# Altium footprint library Laser Controller.PcbLib: 41 footprints (part 1 of 3)
Each footprint in its own frame and in the unit in brackets; x right, y up, seen from the top. Pads: shape width x height; smd on the part's side, far side on the other; paste and mask are expansions set on the pad; w line width, h text height; cw(c..) or ccw(c..) is an arc to the next point about the centre after c.
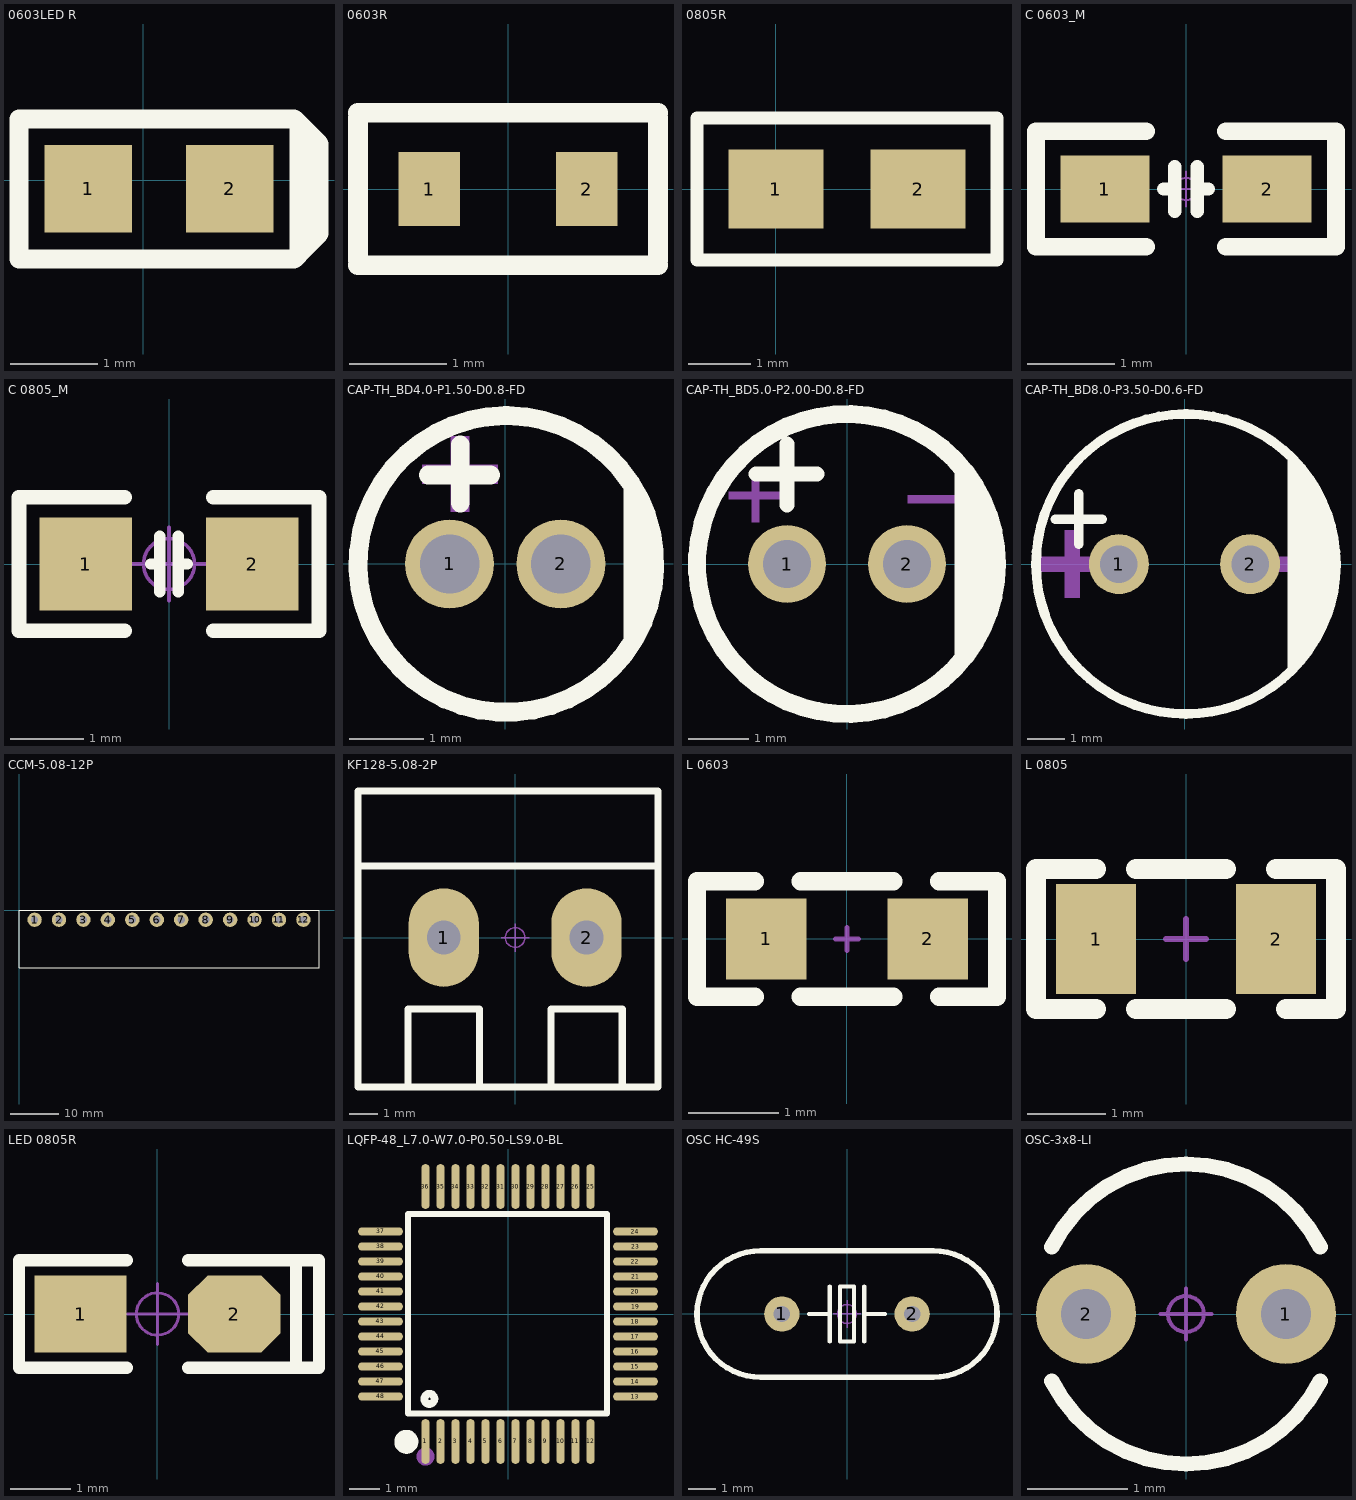
[diagram p0: the footprints below, top view; thin cyan lines are the x and y axes]

## 0603LED R [mm]
pads (2):
  rect 1x1 smd: 1(-0.632,-0.101) 2(0.988,-0.101)
Top Overlay:
  lines w0.22: 1.72,0.698 2.007,0.412 2.007,-0.61 1.72,-0.896 1.72,-0.902 ; 1.88,-0.66 1.88,0.457 ; 1.72,-0.902 1.778,-0.843 1.778,0.635 1.715,0.698 -1.422,0.698 -1.422,-0.902 1.72,-0.902
3D body "User Library-led_0603.STEP": height 0.6, standoff 0, extent -0.632,-0.501 0.988,0.299

## 0603R [mil]
pads (2):
  rect 25x30 smd: 1(-32,0) 2(32,0)
Top Overlay:
  lines w8: -61,-31 13,-31 61,-31 ; -61,-29 -61,29 ; -61,31 13,31 61,31 ; 61,-29 61,29
3D body "R0603.STEP": height 17.72, standoff 0, extent -32.49,-15.74 30.5,15.75

## 0805R [mil]
pads (2):
  rect 60x50 smd: 1(0,0) 2(90,0)
Top Overlay:
  lines w8: -50,-45 65,-45 140,-45 140,45 65,45 -50,45 -50,-45
3D body "R0805.STEP": height 21.65, standoff 0, extent 4.64,-24.8 83.37,24.81

## C 0603_M [mil] "无极性贴片电容"
pads (2):
  rect 40x30 smd: 1(-36.5,0) 2(36.5,0)
Top Overlay:
  lines w6: -10,0 -5,0 ; -5,-10 -5,10 ; 5,-10 5,10 ; 5,0 10,0
  lines w8: -18,-26 -67.5,-26 -67.5,26 -18,26 ; 18,-26 67.5,-26 67.5,26 18,26
Mechanical 15:
  circle w1: c0,0 r5
  lines w1: -7.87,0 7.87,0 ; 0,-7.87 0,7.87
3D body "C 0603.STEP": height 31.89, standoff -0.39, extent -31.5,-16.14 31.5,16.14

## C 0805_M [mil] "无极性贴片电容"
height 19.68
pads (2):
  rect 50x50 smd: 1(-45,0) 2(45,0)
Top Overlay:
  lines w6: -10,0 -5,0 ; -5,-15 -5,15 ; 5,-15 5,15 ; 5,0 10,0
  lines w8: -24,-36 -81,-36 -81,36 -24,36 ; 24,-36 81,-36 81,36 24,36
Mechanical 15:
  circle w1.97: c0,0 r13.78
  lines w1.97: -19.68,0 19.68,0 ; 0,-19.68 0,19.68
3D body "C 0805.STEP": height 20.08, standoff -0.39, extent -39.37,-24.02 39.37,24.02

## CAP-TH_BD4.0-P1.50-D0.8-FD [mm] "径向引线,4x7mm"
pads (2):
  round 1.2 hole 0.8: 1(-0.75,0) 2(0.75,0)
Top Overlay:
  region: 1.6,-1.2 1.71,-1.077 1.882,-0.796 1.999,-0.489 2.059,-0.165 2.059,0.165 1.999,0.489 1.882,0.796 1.71,1.077 1.6,1.2
  lines w0.254: -1.038,1.2 -0.2,1.2 ; -0.606,0.819 -0.606,1.606 ; -0.001,1.999 ccw(c0.015,-0.001) 0.032,1.999
Mechanical 15:
  region: -1.118,1.337 -0.737,1.337 -0.102,1.337 -0.102,1.083 -1.118,1.083
  region: -0.737,0.702 -0.737,1.083 -0.737,1.718 -0.483,1.718 -0.483,0.702
  region: 1.651,1.016 1.742,0.925 1.884,0.712 1.982,0.476 2.032,0.224 2.032,0.096 2.032,-0.127 2.032,-0.223 2.032,-0.351 1.982,-0.603 1.884,-0.839 1.742,-1.052 1.651,-1.143

## CAP-TH_BD5.0-P2.00-D0.8-FD [mm] "径向引线,5x11mm"
pads (2):
  round 1.3 hole 0.8: 1(-1,0) 2(1,0)
Top Overlay:
  circle w0.3: c0,0 r2.5
  region: 1.794,1.651 1.961,1.491 2.225,1.111 2.407,0.685 2.5,0.231 2.5,-0.231 2.407,-0.685 2.225,-1.111 1.961,-1.491 1.794,-1.651
  lines w0.254: -1.516,1.5 -0.5,1.5 ; -1,0.984 -1,2
Mechanical 15:
  region: 1.016,1.143 1.905,1.143 1.905,1.016 1.016,1.016
  region: -1.588,0.699 -1.588,1.587 -1.461,1.587 -1.46,0.699
  region: -1.969,1.206 -1.08,1.206 -1.08,1.079 -1.969,1.079

## CAP-TH_BD8.0-P3.50-D0.6-FD [mm] "径向引线,8x16mm"
pads (2):
  round 1.6 hole 1: 1(-1.75,0) 2(1.75,0)
Top Overlay:
  region: 2.75,-3 2.941,-2.8 3.268,-2.355 3.536,-1.872 3.741,-1.359 3.88,-0.824 3.95,-0.276 3.95,0.276 3.88,0.824 3.741,1.359 3.536,1.872 3.268,2.355 2.941,2.8 2.75,3
  lines w0.254: -3.445,1.2 -2.2,1.2 ; -2.822,0.527 -2.822,1.873 ; 0.003,4 ccw(c0.038,0.001) 0.074,4
Mechanical 15:
  region: 3.5,0.2 2.1,0.2 2.1,-0.2 3.7,-0.2 3.9,-0.2 3.9,0.2
  region: -2.5,0.2 -3.9,0.2 -3.9,-0.2 -2.3,-0.2 -2.1,-0.2 -2.1,0.2
  region: -3.2,0.5 -3.2,-0.9 -2.8,-0.9 -2.8,0.7 -2.8,0.9 -3.2,0.9

## CCM-5.08-12P [mm] "蒜米工坊"
pads (12):
  round 3 hole 1.5: 1(3.24,-2) 2(8.32,-2) 3(13.4,-2) 4(18.48,-2) 5(23.56,-2) 6(28.64,-2) 7(33.72,-2) 8(38.8,-2) 9(43.88,-2) 10(48.96,-2) 11(54.04,-2) 12(59.12,-2)
Top Overlay:
  lines w0.203: 5.08,-12 16.64,-12 ; 5.08,0 16.64,0 ; 10.16,-12 21.72,-12 ; 10.16,0 21.72,0 ; 11.56,-12 0,-12 0,0 11.56,0 ; 15.24,-12 26.8,-12 ; 15.24,0 26.8,0 ; 20.32,-12 62.36,-12 62.36,0 20.32,0

## KF128-5.08-2P [mm] "螺钉式接线端子，脚距5.08mm"
pads (2):
  oval 2.5x3.5 hole 1.2: 1(-2.54,0) 2(2.54,0)
Top Overlay:
  lines w0.254: -5.588,2.54 5.08,2.54 ; -3.81,-5.309 -3.81,-2.54 -1.27,-2.54 -1.27,-5.309 ; 1.27,-5.309 1.27,-2.54 3.81,-2.54 3.81,-5.309 ; -5.588,-5.309 5.08,-5.309 5.08,5.207 -5.588,5.207 -5.588,-5.309
Mechanical 15:
  circle w0.05: c0,0 r0.35
  lines w0.05: -0.5,0 0.5,0 ; 0,-0.5 0,0.5
3D body "KF128-5.08.STEP": height 14.15, standoff -3.95, extent -0.5,-5.3 5.08,5.2
3D body "KF128-5.08.STEP": height 14.15, standoff -3.95, extent -5.58,-5.3 0,5.2

## L 0603 [mil] "小功率贴片电感"
pads (2):
  rect 35x35 smd: 1(-35,0) 2(35,0)
Top Overlay:
  lines w8: -40,-25 -65,-25 -65,25 -40,25 ; -20,-25 20,-25 ; -20,25 20,25 ; 40,-25 65,-25 65,25 40,25
Mechanical 15:
  lines w2: -5,0 5,0 ; 0,-5 0,0 0,5
3D body "0603.STEP": height 31.5, standoff -0.11, extent -31.5,-15.75 31.5,15.75

## L 0805 [mil] "小功率贴片电感"
pads (2):
  rect 40x55 smd: 1(-45,0) 2(45,0)
Top Overlay:
  lines w10: -45,-35 -75,-35 -75,35 -45,35 ; -25,-35 20,-35 ; -25,35 20,35 ; 45,35 75,35 75,-35 50,-35
Mechanical 15:
  lines w3: -10,0 10,0 ; 0,-10 0,10
3D body "0805.STEP": height 35.43, standoff -0.11, extent -39.37,-23.62 39.37,23.62

## LED 0805R [mil] "红色0805LED"
pads (2):
  rect 60x50 smd: 1(-50,0)
  oct 60x50 smd: 2(50,0)
Top Overlay:
  lines w8: -20,-35 -90,-35 -90,35 -20,35 ; 20,-35 105,-35 105,35 20,35 ; 90,-35 90,35
Mechanical 15:
  circle w1.97: c0,0 r13.78
  lines w1.97: -19.68,0 19.68,0 ; 0,-19.68 0,19.68
3D body "LED 0805-R.STEP": height 26.33, standoff -0.16, extent -39.37,-24.65 39.37,24.64
3D body "LED 0805玻璃罩.ST": height 31.69, standoff 12.01, extent -29.49,-24.65 29.49,24.65

## LQFP-48_L7.0-W7.0-P0.50-LS9.0-BL [mm]
pads (48):
  oval 0.27x1.5 smd: 1(-2.75,-4.25) 2(-2.25,-4.25) 3(-1.75,-4.25) 4(-1.25,-4.25) 5(-0.75,-4.25) 6(-0.25,-4.25) 7(0.25,-4.25) 8(0.75,-4.25) 9(1.25,-4.25) 10(1.75,-4.25) 11(2.25,-4.25) 12(2.75,-4.25) 25(2.75,4.25) 26(2.25,4.25) 27(1.75,4.25) 28(1.25,4.25) 29(0.75,4.25) 30(0.25,4.25) 31(-0.25,4.25) 32(-0.75,4.25) 33(-1.25,4.25) 34(-1.75,4.25) 35(-2.25,4.25) 36(-2.75,4.25)
  oval 1.5x0.27 smd: 13(4.25,-2.75) 14(4.25,-2.25) 15(4.25,-1.75) 16(4.25,-1.25) 17(4.25,-0.75) 18(4.25,-0.25) 19(4.25,0.25) 20(4.25,0.75) 21(4.25,1.25) 22(4.25,1.75) 23(4.25,2.25) 24(4.25,2.75) 37(-4.25,2.75) 38(-4.25,2.25) 39(-4.25,1.75) 40(-4.25,1.25) 41(-4.25,0.75) 42(-4.25,0.25) 43(-4.25,-0.25) 44(-4.25,-0.75) 45(-4.25,-1.25) 46(-4.25,-1.75) 47(-4.25,-2.25) 48(-4.25,-2.75)
Top Overlay:
  circle w0.254: c-2.62,-2.83 r0.17
  lines w0.2: -2.896,3.34 3.302,3.34 3.302,-3.315 -3.327,-3.315 -3.327,3.34 -2.565,3.34
  lines w0.4: -3.39,-4.06 ccw(c-3.389,-4.26) -3.387,-4.06
Mechanical 15:
  circle w0.3: c-2.75,-4.75 r0.15

## OSC HC-49S [mm]
pads (2):
  round 1.3 hole 0.6: 1(-2.4,0) 2(2.4,0)
Top Overlay:
  lines w0.152: -1.397,0 -0.635,0 ; -0.635,-1.016 -0.635,1.016 ; 0.635,-1.016 0.635,1.016 ; 0.635,0 1.397,0 ; -0.254,-1.016 -0.254,1.016 0.254,1.016 0.254,-1.016 -0.254,-1.016
  lines w0.203: -3.175,2.325 ccw(c-3.2,0) -3.173,-2.325 3.175,-2.325 ccw(c3.2,0) 3.173,2.325 -3.175,2.325
Mechanical 15:
  circle w0.05: c0,0 r0.35
  lines w0.05: -0.5,0 0.5,0 ; 0,-0.5 0,0.5
3D body "OSC HC-49S.STEP": height 4.13, standoff -3.45, extent -5.525,-2.325 5.525,2.325

## OSC-3x8-LI [mm] "脚距：2mm"
pads (2):
  round 1 hole 0.5: 1(1,0) 2(-1,0)
Top Overlay:
  lines w0.152: -1.342,-0.671 ccw(c0,0) 1.342,-0.671 ; -1.342,0.671 cw(c0,0) 1.342,0.671
Mechanical 15:
  circle w0.04: c0,0 r0.18
  lines w0.04: -0.254,0 0.254,0 ; 0,-0.254 0,0.254
3D body "OSC-3x8-LI.STEP": height 9.1, standoff -2.5, extent -1.5,-1.5 1.5,1.5